# Altium schematic symbol library QUTMS_LEDLibrary.SchLib: 6 symbols
Pins are listed as number, name and electrical type; pins without a type are passive.

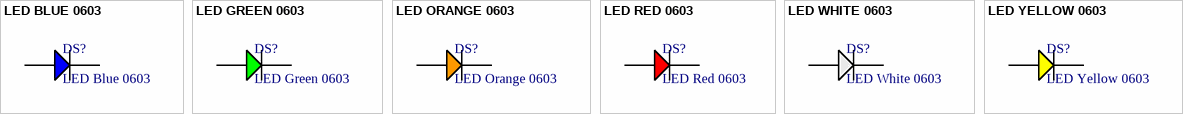
[diagram p0: symbols LED BLUE 0603 to LED YELLOW 0603]

## LED BLUE 0603
designator DS?, comment LED Blue 0603
footprint LED BLUE 0603
pins: 1 A, 2 C

## LED GREEN 0603
designator DS?, comment LED Green 0603
footprint LED GREEN 0603
pins: 1 A, 2 C

## LED ORANGE 0603
designator DS?, comment LED Orange 0603
footprint LED ORANGE 0603
pins: 1 A, 2 C

## LED RED 0603
designator DS?, comment LED Red 0603
footprint LED RED 0603
pins: 1 A, 2 C

## LED WHITE 0603
designator DS?, comment LED White 0603
footprint LED WHITE 0603
pins: 1 A, 2 C

## LED YELLOW 0603
designator DS?, comment LED Yellow 0603
footprint LED YELLOW 0603
pins: 1 A, 2 C